# Altium integrated library Renesas Logic.IntLib: 1013 symbols (part 5 of 27)
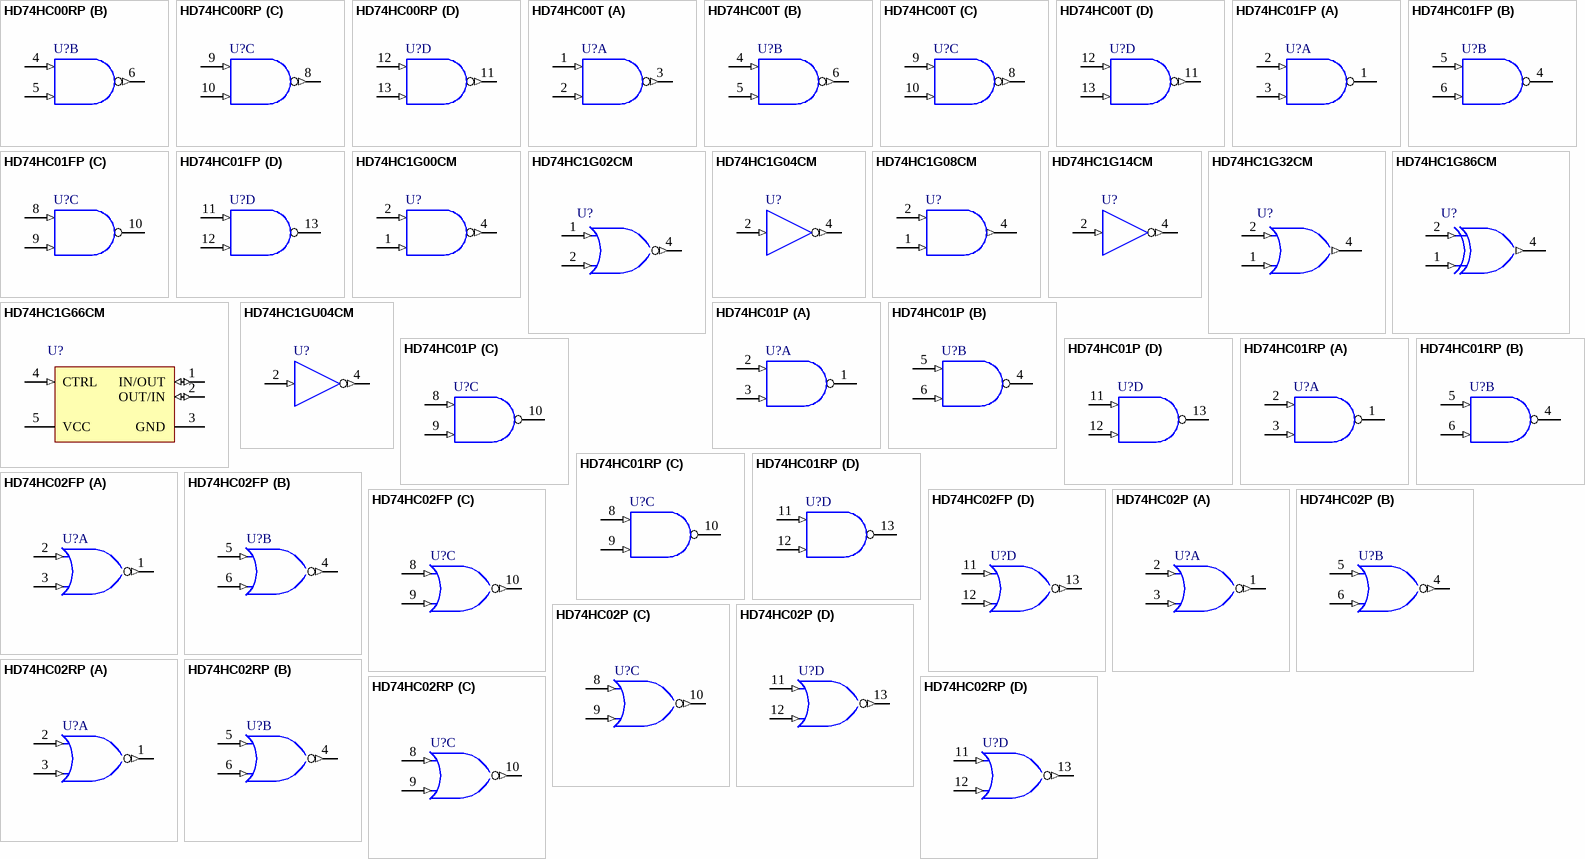
[diagram p57: symbols HD74HC00RP to HD74HC02RP]

## HD74HC1G86CM
designator U?
2-Input Exclusive-OR Gate; Published: 10-Feb-2010; DatasheetVersion: Rev.5.00, Jan-2004; PackageVersion: Jan-2005; PackageReference: PTSP0005ZC-A; Publisher: Altium Limited; PackageDescription: 5-Pin Plastic SOT-353 Package 0.65 mm Pitch, 2.1 mm Lead Span; Code_JEITA: SC-88A; Code_IPC: SOT353-5; ComponentLink1Description: Manufacturer Link; ComponentLink1URL: http://sg.renesas.com/fmwk.jsp?cnt=unilogic_hc_root.jsp&fp=/products/standard_ic/general_purpose_logic/uni_logic/unilogic_hc/; ComponentLink2Description: Datasheet; ComponentLink2URL: http://documentation.renesas.com/eng/products/logic/rej03d0189_hd74hc1g86.pdf; ComponentLink3Description: Packaging Specification; ComponentLink3URL: http://sg.renesas.com/media/products/common_info/package/pdf/ic/code/ptsp0005zc_a.pdf
footprint PTSP0005ZC-A_N (SOT353, 5-Leads, Body 2x1.3mm, Pitch 0.65mm, Lead Span 2.1mm, IPC Medium Density)
footprint PTSP0005ZC-A_L (SOT353, 5-Leads, Body 2x1.3mm, Pitch 0.65mm, Lead Span 2.1mm, IPC High Density)
footprint PTSP0005ZC-A_M (SOT353, 5-Leads, Body 2x1.3mm, Pitch 0.65mm, Lead Span 2.1mm, IPC Low Density)
pins: 1 IN B (in), 2 IN A (in), 3 GND (power) hidden, 4 OUT Y (out), 5 VCC (power) hidden

## HD74HC1GU04CM
designator U?
Unbuffered Inverter; Published: 10-Feb-2010; DatasheetVersion: Rev.5.00, Jan-2004; PackageVersion: Jan-2005; PackageReference: PTSP0005ZC-A; Publisher: Altium Limited; PackageDescription: 5-Pin Plastic SOT-353 Package 0.65 mm Pitch, 2.1 mm Lead Span; Code_JEITA: SC-88A; Code_IPC: SOT353-5; ComponentLink1Description: Manufacturer Link; ComponentLink1URL: http://sg.renesas.com/fmwk.jsp?cnt=unilogic_hc_root.jsp&fp=/products/standard_ic/general_purpose_logic/uni_logic/unilogic_hc/; ComponentLink2Description: Datasheet; ComponentLink2URL: http://documentation.renesas.com/eng/products/logic/rej03d0190_hd74hc1gu04.pdf; ComponentLink3Description: Packaging Specification; ComponentLink3URL: http://sg.renesas.com/media/products/common_info/package/pdf/ic/code/ptsp0005zc_a.pdf
footprint PTSP0005ZC-A_N (SOT353, 5-Leads, Body 2x1.3mm, Pitch 0.65mm, Lead Span 2.1mm, IPC Medium Density)
footprint PTSP0005ZC-A_L (SOT353, 5-Leads, Body 2x1.3mm, Pitch 0.65mm, Lead Span 2.1mm, IPC High Density)
footprint PTSP0005ZC-A_M (SOT353, 5-Leads, Body 2x1.3mm, Pitch 0.65mm, Lead Span 2.1mm, IPC Low Density)
pins: 1 NC hidden, 2 IN A (in), 3 GND (power) hidden, 4 OUT ~{Y} (out), 5 VCC (power) hidden

## HD74HC01P
designator U?
Quad 2-Input NAND Gates with Open Drain Outputs; Published: 10-Feb-2010; DatasheetVersion: Rev.2.00, Oct-2005; PackageVersion: Sep-2005; PackageReference: PRDP0014AB-B; Publisher: Altium Limited; PackageDescription: 14-Pin Plastic DIP, 19.2 x 6.3 mm Body, 7.62 mm Row Spacing, Pitch 2.54 mm; Code_JEITA: P-DIP14-6.3x19.2-2.54; ComponentLink1Description: Manufacturer Link; ComponentLink1URL: http://sg.renesas.com/fmwk.jsp?cnt=hd74hc_root.jsp&fp=/products/standard_ic/general_purpose_logic/5v_standard_logic/hd74hc/; ComponentLink2Description: Datasheet; ComponentLink2URL: http://documentation.renesas.com/eng/products/logic/rej03d0532_hd74hc01ds.pdf; ComponentLink3Description: Packaging Specification; ComponentLink3URL: http://sg.renesas.com/media/products/common_info/package/pdf/ic/code/prdp0014ab_b.pdf
footprint PRDP0014AB-B (DIP, 14-Leads, Row Spacing 7.62mm, Pitch 2.54mm, Body 19.2x6.3mm)
pins on every part: 7 GND (power) hidden, 14 VCC (power) hidden
part A pins: 1 1Y (oc), 2 1A (in), 3 1B (in)
part B pins: 4 2Y (oc), 5 2A (in), 6 2B (in)
part C pins: 8 3A (in), 9 3B (in), 10 3Y (oc)
part D pins: 11 4A (in), 12 4B (in), 13 4Y (oc)

## HD74HC01RP
designator U?
Quad 2-Input NAND Gates with Open Drain Outputs; Published: 10-Feb-2010; DatasheetVersion: Rev.2.00, Oct-2005; PackageVersion: Sep-2005; PackageReference: PRSP0014DE-A; Publisher: Altium Limited; PackageDescription: 14-Pin Plastic Small Outline Integrated Circuit 8.65 x 3.95 mm Body, 1.27 mm Pitch; Code_JEITA: P-SOP14-3.95x8.65-1.27; ComponentLink1Description: Manufacturer Link; ComponentLink1URL: http://sg.renesas.com/fmwk.jsp?cnt=hd74hc_root.jsp&fp=/products/standard_ic/general_purpose_logic/5v_standard_logic/hd74hc/; ComponentLink2Description: Datasheet; ComponentLink2URL: http://documentation.renesas.com/eng/products/logic/rej03d0532_hd74hc01ds.pdf; ComponentLink3Description: Packaging Specification; ComponentLink3URL: http://sg.renesas.com/media/products/common_info/package/pdf/ic/code/prsp0014de_a.pdf
footprint PRSP0014DE-A_N (SOIC, 14-Leads, Body 8.65x3.95mm, Pitch 1.27mm, IPC Medium Density)
footprint PRSP0014DE-A_L (SOIC, 14-Leads, Body 8.65x3.95mm, Pitch 1.27mm, IPC High Density)
footprint PRSP0014DE-A_M (SOIC, 14-Leads, Body 8.65x3.95mm, Pitch 1.27mm, IPC Low Density)
pins on every part: 7 GND (power) hidden, 14 VCC (power) hidden
part A pins: 1 1Y (oc), 2 1A (in), 3 1B (in)
part B pins: 4 2Y (oc), 5 2A (in), 6 2B (in)
part C pins: 8 3A (in), 9 3B (in), 10 3Y (oc)
part D pins: 11 4A (in), 12 4B (in), 13 4Y (oc)

## HD74HC02FP
designator U?
Quad 2-Input NOR Gates; Published: 10-Feb-2010; DatasheetVersion: Rev.2.00, Oct-2005; PackageVersion: Sep-2005; PackageReference: PRSP0014DF-B; Publisher: Altium Limited; PackageDescription: 14-Pin Plastic Small Outline Package, 10.06 x 5.5 mm Body, 1.27 mm Pitch; Code_JEITA: P-SOP14-5.5x10.06-1.27; ComponentLink1Description: Manufacturer Link; ComponentLink1URL: http://sg.renesas.com/fmwk.jsp?cnt=hd74hc_root.jsp&fp=/products/standard_ic/general_purpose_logic/5v_standard_logic/hd74hc/; ComponentLink2Description: Datasheet; ComponentLink2URL: http://documentation.renesas.com/eng/products/logic/rej03d0533_hd74hc02ds.pdf; ComponentLink3Description: Packaging Specification; ComponentLink3URL: http://sg.renesas.com/media/products/common_info/package/pdf/ic/code/prsp0014df_b.pdf
footprint PRSP0014DF-B_N (SOP, 14-Leads, Body 10.06x5.5mm, Pitch 1.27mm, IPC Medium Density)
footprint PRSP0014DF-B_L (SOP, 14-Leads, Body 10.06x5.5mm, Pitch 1.27mm, IPC High Density)
footprint PRSP0014DF-B_M (SOP, 14-Leads, Body 10.06x5.5mm, Pitch 1.27mm, IPC Low Density)
pins on every part: 7 GND (power) hidden, 14 VCC (power) hidden
part A pins: 1 1Y (out), 2 1A (in), 3 1B (in)
part B pins: 4 2Y (out), 5 2A (in), 6 2B (in)
part C pins: 8 3A (in), 9 3B (in), 10 3Y (out)
part D pins: 11 4A (in), 12 4B (in), 13 4Y (out)

## HD74HC02P
designator U?
Quad 2-Input NOR Gates; Published: 10-Feb-2010; DatasheetVersion: Rev.2.00, Oct-2005; PackageVersion: Sep-2005; PackageReference: PRDP0014AB-B; Publisher: Altium Limited; PackageDescription: 14-Pin Plastic DIP, 19.2 x 6.3 mm Body, 7.62 mm Row Spacing, Pitch 2.54 mm; Code_JEITA: P-DIP14-6.3x19.2-2.54; ComponentLink1Description: Manufacturer Link; ComponentLink1URL: http://sg.renesas.com/fmwk.jsp?cnt=hd74hc_root.jsp&fp=/products/standard_ic/general_purpose_logic/5v_standard_logic/hd74hc/; ComponentLink2Description: Datasheet; ComponentLink2URL: http://documentation.renesas.com/eng/products/logic/rej03d0533_hd74hc02ds.pdf; ComponentLink3Description: Packaging Specification; ComponentLink3URL: http://sg.renesas.com/media/products/common_info/package/pdf/ic/code/prdp0014ab_b.pdf
footprint PRDP0014AB-B (DIP, 14-Leads, Row Spacing 7.62mm, Pitch 2.54mm, Body 19.2x6.3mm)
pins on every part: 7 GND (power) hidden, 14 VCC (power) hidden
part A pins: 1 1Y (out), 2 1A (in), 3 1B (in)
part B pins: 4 2Y (out), 5 2A (in), 6 2B (in)
part C pins: 8 3A (in), 9 3B (in), 10 3Y (out)
part D pins: 11 4A (in), 12 4B (in), 13 4Y (out)

## HD74HC02RP
designator U?
Quad 2-Input NOR Gates; Published: 10-Feb-2010; DatasheetVersion: Rev.2.00, Oct-2005; PackageVersion: Sep-2005; PackageReference: PRSP0014DE-A; Publisher: Altium Limited; PackageDescription: 14-Pin Plastic Small Outline Integrated Circuit 8.65 x 3.95 mm Body, 1.27 mm Pitch; Code_JEITA: P-SOP14-3.95x8.65-1.27; ComponentLink1Description: Manufacturer Link; ComponentLink1URL: http://sg.renesas.com/fmwk.jsp?cnt=hd74hc_root.jsp&fp=/products/standard_ic/general_purpose_logic/5v_standard_logic/hd74hc/; ComponentLink2Description: Datasheet; ComponentLink2URL: http://documentation.renesas.com/eng/products/logic/rej03d0533_hd74hc02ds.pdf; ComponentLink3Description: Packaging Specification; ComponentLink3URL: http://sg.renesas.com/media/products/common_info/package/pdf/ic/code/prsp0014de_a.pdf
footprint PRSP0014DE-A_N (SOIC, 14-Leads, Body 8.65x3.95mm, Pitch 1.27mm, IPC Medium Density)
footprint PRSP0014DE-A_L (SOIC, 14-Leads, Body 8.65x3.95mm, Pitch 1.27mm, IPC High Density)
footprint PRSP0014DE-A_M (SOIC, 14-Leads, Body 8.65x3.95mm, Pitch 1.27mm, IPC Low Density)
pins on every part: 7 GND (power) hidden, 14 VCC (power) hidden
part A pins: 1 1Y (out), 2 1A (in), 3 1B (in)
part B pins: 4 2Y (out), 5 2A (in), 6 2B (in)
part C pins: 8 3A (in), 9 3B (in), 10 3Y (out)
part D pins: 11 4A (in), 12 4B (in), 13 4Y (out)

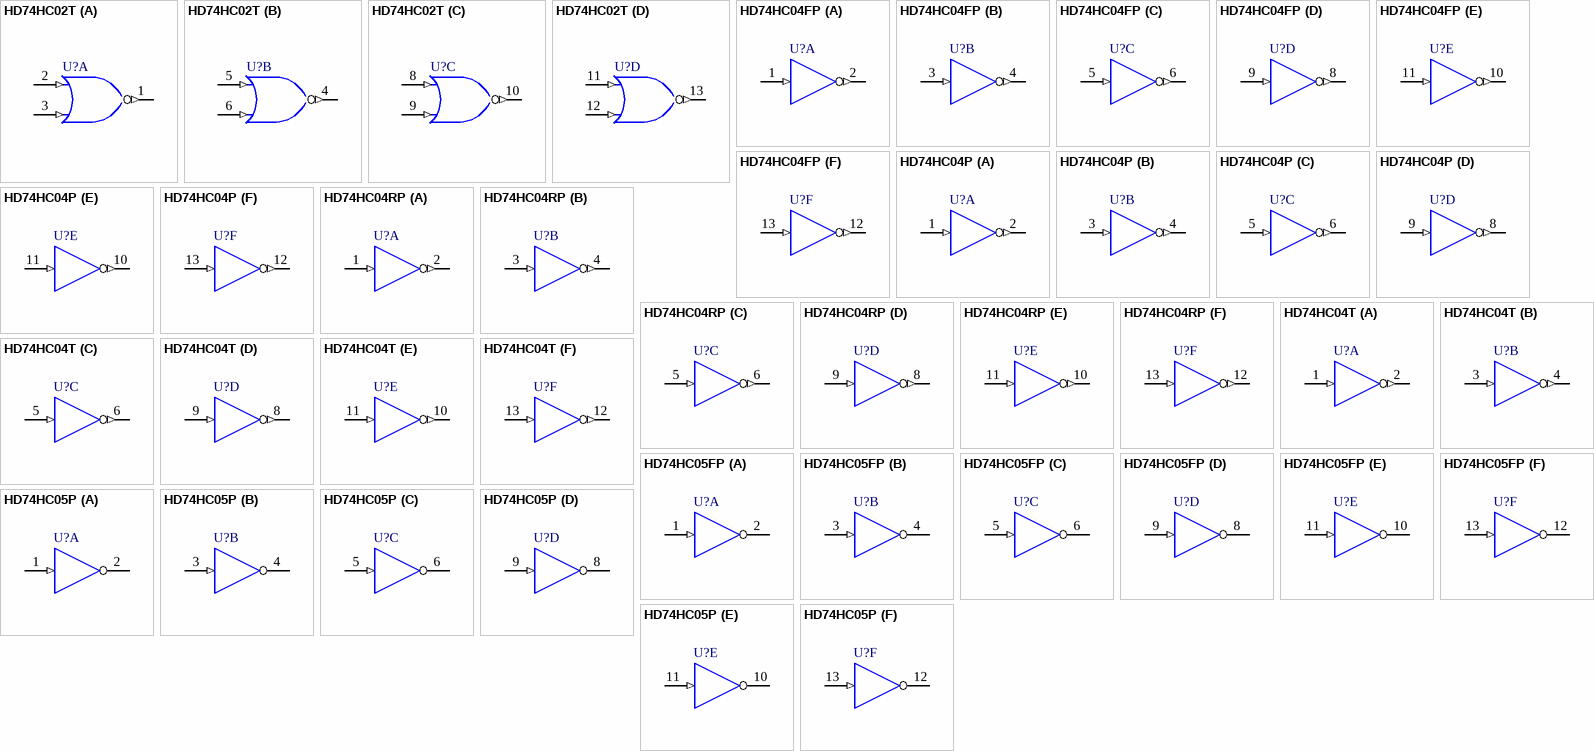
[diagram p9: symbols HD74HC02T to HD74HC05P]

## HD74HC02T
designator U?
Quad 2-Input NOR Gates; Published: 10-Feb-2010; DatasheetVersion: Rev.2.00, Oct-2005; PackageVersion: Sep-2005; PackageReference: PTSP0014JA-B; Publisher: Altium Limited; PackageDescription: 14-Pin Plastic Thin Small Outline Package 0.65 mm Pitch; Code_JEITA: P-TSSOP14-4.4x5-0.65; ComponentLink1Description: Manufacturer Link; ComponentLink1URL: http://sg.renesas.com/fmwk.jsp?cnt=hd74hc_root.jsp&fp=/products/standard_ic/general_purpose_logic/5v_standard_logic/hd74hc/; ComponentLink2Description: Datasheet; ComponentLink2URL: http://documentation.renesas.com/eng/products/logic/rej03d0533_hd74hc02ds.pdf; ComponentLink3Description: Packaging Specification; ComponentLink3URL: http://sg.renesas.com/media/products/common_info/package/pdf/ic/code/ptsp0014ja_b.pdf
footprint PTSP0014JA-B_N (TSOP, 14-Leads, Body 5x4.4mm, Pitch 0.65mm, IPC Medium Density)
footprint PTSP0014JA-B_L (TSOP, 14-Leads, Body 5x4.4mm, Pitch 0.65mm, IPC High Density)
footprint PTSP0014JA-B_M (TSOP, 14-Leads, Body 5x4.4mm, Pitch 0.65mm, IPC Low Density)
pins on every part: 7 GND (power) hidden, 14 VCC (power) hidden
part A pins: 1 1Y (out), 2 1A (in), 3 1B (in)
part B pins: 4 2Y (out), 5 2A (in), 6 2B (in)
part C pins: 8 3A (in), 9 3B (in), 10 3Y (out)
part D pins: 11 4A (in), 12 4B (in), 13 4Y (out)

## HD74HC04FP
designator U?
Hex Inverters; Published: 10-Feb-2010; DatasheetVersion: Rev.2.00, Oct-2005; PackageVersion: Sep-2005; PackageReference: PRSP0014DF-B; Publisher: Altium Limited; PackageDescription: 14-Pin Plastic Small Outline Package, 10.06 x 5.5 mm Body, 1.27 mm Pitch; Code_JEITA: P-SOP14-5.5x10.06-1.27; ComponentLink1Description: Manufacturer Link; ComponentLink1URL: http://sg.renesas.com/fmwk.jsp?cnt=hd74hc_root.jsp&fp=/products/standard_ic/general_purpose_logic/5v_standard_logic/hd74hc/; ComponentLink2Description: Datasheet; ComponentLink2URL: http://documentation.renesas.com/eng/products/logic/rej03d0534_hd74hc04ds.pdf; ComponentLink3Description: Packaging Specification; ComponentLink3URL: http://sg.renesas.com/media/products/common_info/package/pdf/ic/code/prsp0014df_b.pdf
footprint PRSP0014DF-B_N (SOP, 14-Leads, Body 10.06x5.5mm, Pitch 1.27mm, IPC Medium Density)
footprint PRSP0014DF-B_L (SOP, 14-Leads, Body 10.06x5.5mm, Pitch 1.27mm, IPC High Density)
footprint PRSP0014DF-B_M (SOP, 14-Leads, Body 10.06x5.5mm, Pitch 1.27mm, IPC Low Density)
pins on every part: 7 GND (power) hidden, 14 VCC (power) hidden
part A pins: 1 1A (in), 2 1~{Y} (out)
part B pins: 3 2A (in), 4 2~{Y} (out)
part C pins: 5 3A (in), 6 3~{Y} (out)
part D pins: 8 4~{Y} (out), 9 4A (in)
part E pins: 10 5~{Y} (out), 11 5A (in)
part F pins: 12 6~{Y} (out), 13 6A (in)

## HD74HC04P
designator U?
Hex Inverters; Published: 10-Feb-2010; DatasheetVersion: Rev.2.00, Oct-2005; PackageVersion: Sep-2005; PackageReference: PRDP0014AB-B; Publisher: Altium Limited; PackageDescription: 14-Pin Plastic DIP, 19.2 x 6.3 mm Body, 7.62 mm Row Spacing, Pitch 2.54 mm; Code_JEITA: P-DIP14-6.3x19.2-2.54; ComponentLink1Description: Manufacturer Link; ComponentLink1URL: http://sg.renesas.com/fmwk.jsp?cnt=hd74hc_root.jsp&fp=/products/standard_ic/general_purpose_logic/5v_standard_logic/hd74hc/; ComponentLink2Description: Datasheet; ComponentLink2URL: http://documentation.renesas.com/eng/products/logic/rej03d0534_hd74hc04ds.pdf; ComponentLink3Description: Packaging Specification; ComponentLink3URL: http://sg.renesas.com/media/products/common_info/package/pdf/ic/code/prdp0014ab_b.pdf
footprint PRDP0014AB-B (DIP, 14-Leads, Row Spacing 7.62mm, Pitch 2.54mm, Body 19.2x6.3mm)
pins on every part: 7 GND (power) hidden, 14 VCC (power) hidden
part A pins: 1 1A (in), 2 1~{Y} (out)
part B pins: 3 2A (in), 4 2~{Y} (out)
part C pins: 5 3A (in), 6 3~{Y} (out)
part D pins: 8 4~{Y} (out), 9 4A (in)
part E pins: 10 5~{Y} (out), 11 5A (in)
part F pins: 12 6~{Y} (out), 13 6A (in)

## HD74HC04RP
designator U?
Hex Inverters; Published: 10-Feb-2010; DatasheetVersion: Rev.2.00, Oct-2005; PackageVersion: Sep-2005; PackageReference: PRSP0014DE-A; Publisher: Altium Limited; PackageDescription: 14-Pin Plastic Small Outline Integrated Circuit 8.65 x 3.95 mm Body, 1.27 mm Pitch; Code_JEITA: P-SOP14-3.95x8.65-1.27; ComponentLink1Description: Manufacturer Link; ComponentLink1URL: http://sg.renesas.com/fmwk.jsp?cnt=hd74hc_root.jsp&fp=/products/standard_ic/general_purpose_logic/5v_standard_logic/hd74hc/; ComponentLink2Description: Datasheet; ComponentLink2URL: http://documentation.renesas.com/eng/products/logic/rej03d0534_hd74hc04ds.pdf; ComponentLink3Description: Packaging Specification; ComponentLink3URL: http://sg.renesas.com/media/products/common_info/package/pdf/ic/code/prsp0014de_a.pdf
footprint PRSP0014DE-A_N (SOIC, 14-Leads, Body 8.65x3.95mm, Pitch 1.27mm, IPC Medium Density)
footprint PRSP0014DE-A_L (SOIC, 14-Leads, Body 8.65x3.95mm, Pitch 1.27mm, IPC High Density)
footprint PRSP0014DE-A_M (SOIC, 14-Leads, Body 8.65x3.95mm, Pitch 1.27mm, IPC Low Density)
pins on every part: 7 GND (power) hidden, 14 VCC (power) hidden
part A pins: 1 1A (in), 2 1~{Y} (out)
part B pins: 3 2A (in), 4 2~{Y} (out)
part C pins: 5 3A (in), 6 3~{Y} (out)
part D pins: 8 4~{Y} (out), 9 4A (in)
part E pins: 10 5~{Y} (out), 11 5A (in)
part F pins: 12 6~{Y} (out), 13 6A (in)

## HD74HC04T
designator U?
Hex Inverters; Published: 10-Feb-2010; DatasheetVersion: Rev.2.00, Oct-2005; PackageVersion: Sep-2005; PackageReference: PTSP0014JA-B; Publisher: Altium Limited; PackageDescription: 14-Pin Plastic Thin Small Outline Package 0.65 mm Pitch; Code_JEITA: P-TSSOP14-4.4x5-0.65; ComponentLink1Description: Manufacturer Link; ComponentLink1URL: http://sg.renesas.com/fmwk.jsp?cnt=hd74hc_root.jsp&fp=/products/standard_ic/general_purpose_logic/5v_standard_logic/hd74hc/; ComponentLink2Description: Datasheet; ComponentLink2URL: http://documentation.renesas.com/eng/products/logic/rej03d0534_hd74hc04ds.pdf; ComponentLink3Description: Packaging Specification; ComponentLink3URL: http://sg.renesas.com/media/products/common_info/package/pdf/ic/code/ptsp0014ja_b.pdf
footprint PTSP0014JA-B_N (TSOP, 14-Leads, Body 5x4.4mm, Pitch 0.65mm, IPC Medium Density)
footprint PTSP0014JA-B_L (TSOP, 14-Leads, Body 5x4.4mm, Pitch 0.65mm, IPC High Density)
footprint PTSP0014JA-B_M (TSOP, 14-Leads, Body 5x4.4mm, Pitch 0.65mm, IPC Low Density)
pins on every part: 7 GND (power) hidden, 14 VCC (power) hidden
part A pins: 1 1A (in), 2 1~{Y} (out)
part B pins: 3 2A (in), 4 2~{Y} (out)
part C pins: 5 3A (in), 6 3~{Y} (out)
part D pins: 8 4~{Y} (out), 9 4A (in)
part E pins: 10 5~{Y} (out), 11 5A (in)
part F pins: 12 6~{Y} (out), 13 6A (in)

## HD74HC05FP
designator U?
Hex Inverters with Open Drain Outputs; Published: 10-Feb-2010; DatasheetVersion: Rev.2.00, Oct-2005; PackageVersion: Sep-2005; PackageReference: PRSP0014DF-B; Publisher: Altium Limited; PackageDescription: 14-Pin Plastic Small Outline Package, 10.06 x 5.5 mm Body, 1.27 mm Pitch; Code_JEITA: P-SOP14-5.5x10.06-1.27; ComponentLink1Description: Manufacturer Link; ComponentLink1URL: http://sg.renesas.com/fmwk.jsp?cnt=hd74hc_root.jsp&fp=/products/standard_ic/general_purpose_logic/5v_standard_logic/hd74hc/; ComponentLink2Description: Datasheet; ComponentLink2URL: http://documentation.renesas.com/eng/products/logic/rej03d0535_hd74hc05ds.pdf; ComponentLink3Description: Packaging Specification; ComponentLink3URL: http://sg.renesas.com/media/products/common_info/package/pdf/ic/code/prsp0014df_b.pdf
footprint PRSP0014DF-B_N (SOP, 14-Leads, Body 10.06x5.5mm, Pitch 1.27mm, IPC Medium Density)
footprint PRSP0014DF-B_L (SOP, 14-Leads, Body 10.06x5.5mm, Pitch 1.27mm, IPC High Density)
footprint PRSP0014DF-B_M (SOP, 14-Leads, Body 10.06x5.5mm, Pitch 1.27mm, IPC Low Density)
pins on every part: 7 GND (power) hidden, 14 VCC (power) hidden
part A pins: 1 1A (in), 2 1~{Y} (oc)
part B pins: 3 2A (in), 4 2~{Y} (oc)
part C pins: 5 3A (in), 6 3~{Y} (oc)
part D pins: 8 4~{Y} (oc), 9 4A (in)
part E pins: 10 5~{Y} (oc), 11 5A (in)
part F pins: 12 6~{Y} (oc), 13 6A (in)

## HD74HC05P
designator U?
Hex Inverters with Open Drain Outputs; Published: 10-Feb-2010; DatasheetVersion: Rev.2.00, Oct-2005; PackageVersion: Sep-2005; PackageReference: PRDP0014AB-B; Publisher: Altium Limited; PackageDescription: 14-Pin Plastic DIP, 19.2 x 6.3 mm Body, 7.62 mm Row Spacing, Pitch 2.54 mm; Code_JEITA: P-DIP14-6.3x19.2-2.54; ComponentLink1Description: Manufacturer Link; ComponentLink1URL: http://sg.renesas.com/fmwk.jsp?cnt=hd74hc_root.jsp&fp=/products/standard_ic/general_purpose_logic/5v_standard_logic/hd74hc/; ComponentLink2Description: Datasheet; ComponentLink2URL: http://documentation.renesas.com/eng/products/logic/rej03d0535_hd74hc05ds.pdf; ComponentLink3Description: Packaging Specification; ComponentLink3URL: http://sg.renesas.com/media/products/common_info/package/pdf/ic/code/prdp0014ab_b.pdf
footprint PRDP0014AB-B (DIP, 14-Leads, Row Spacing 7.62mm, Pitch 2.54mm, Body 19.2x6.3mm)
pins on every part: 7 GND (power) hidden, 14 VCC (power) hidden
part A pins: 1 1A (in), 2 1~{Y} (oc)
part B pins: 3 2A (in), 4 2~{Y} (oc)
part C pins: 5 3A (in), 6 3~{Y} (oc)
part D pins: 8 4~{Y} (oc), 9 4A (in)
part E pins: 10 5~{Y} (oc), 11 5A (in)
part F pins: 12 6~{Y} (oc), 13 6A (in)

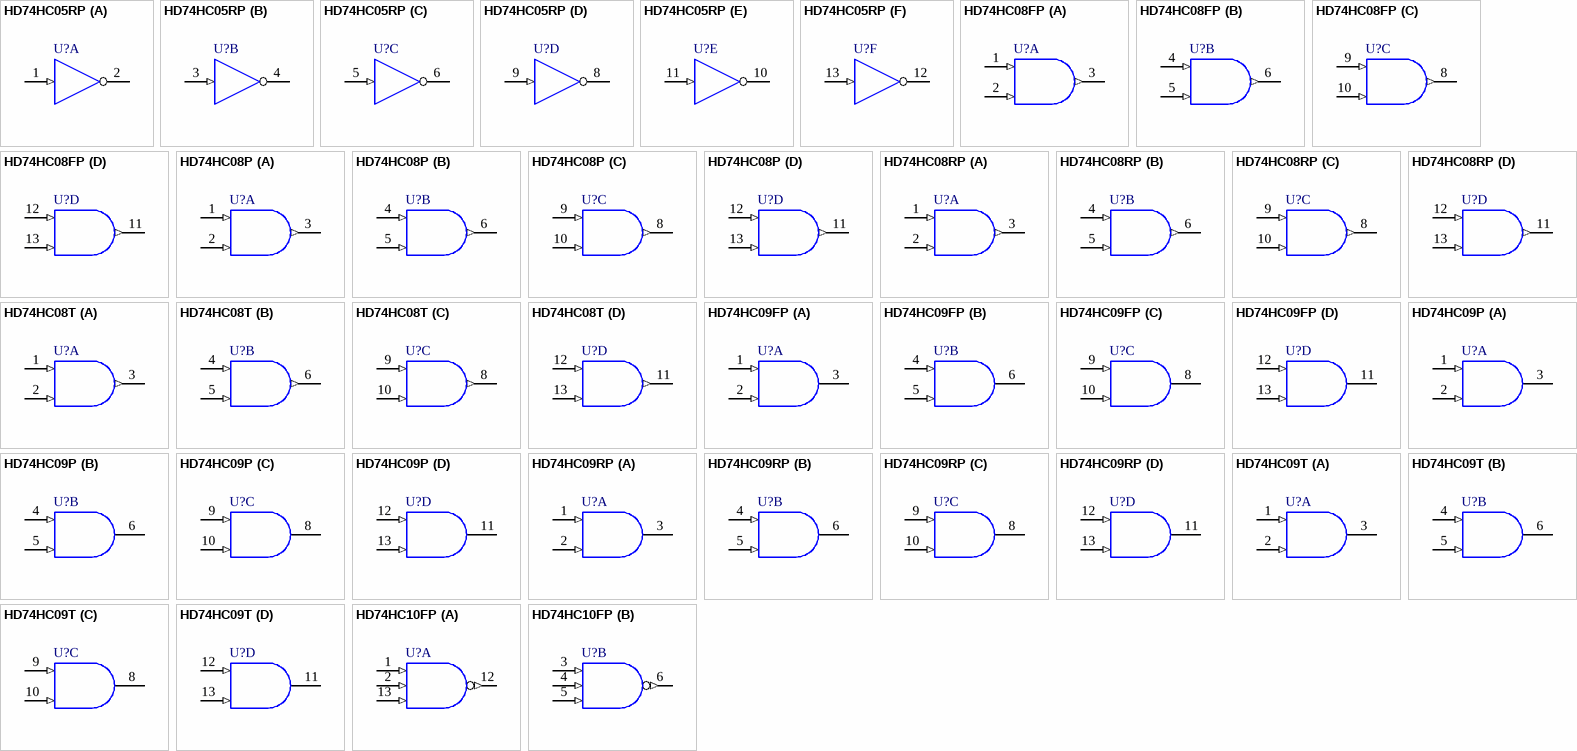
[diagram p10: symbols HD74HC05RP to HD74HC10FP]

## HD74HC05RP
designator U?
Hex Inverters with Open Drain Outputs; Published: 10-Feb-2010; DatasheetVersion: Rev.2.00, Oct-2005; PackageVersion: Sep-2005; PackageReference: PRSP0014DE-A; Publisher: Altium Limited; PackageDescription: 14-Pin Plastic Small Outline Integrated Circuit 8.65 x 3.95 mm Body, 1.27 mm Pitch; Code_JEITA: P-SOP14-3.95x8.65-1.27; ComponentLink1Description: Manufacturer Link; ComponentLink1URL: http://sg.renesas.com/fmwk.jsp?cnt=hd74hc_root.jsp&fp=/products/standard_ic/general_purpose_logic/5v_standard_logic/hd74hc/; ComponentLink2Description: Datasheet; ComponentLink2URL: http://documentation.renesas.com/eng/products/logic/rej03d0535_hd74hc05ds.pdf; ComponentLink3Description: Packaging Specification; ComponentLink3URL: http://sg.renesas.com/media/products/common_info/package/pdf/ic/code/prsp0014de_a.pdf
footprint PRSP0014DE-A_N (SOIC, 14-Leads, Body 8.65x3.95mm, Pitch 1.27mm, IPC Medium Density)
footprint PRSP0014DE-A_L (SOIC, 14-Leads, Body 8.65x3.95mm, Pitch 1.27mm, IPC High Density)
footprint PRSP0014DE-A_M (SOIC, 14-Leads, Body 8.65x3.95mm, Pitch 1.27mm, IPC Low Density)
pins on every part: 7 GND (power) hidden, 14 VCC (power) hidden
part A pins: 1 1A (in), 2 1~{Y} (oc)
part B pins: 3 2A (in), 4 2~{Y} (oc)
part C pins: 5 3A (in), 6 3~{Y} (oc)
part D pins: 8 4~{Y} (oc), 9 4A (in)
part E pins: 10 5~{Y} (oc), 11 5A (in)
part F pins: 12 6~{Y} (oc), 13 6A (in)

## HD74HC08FP
designator U?
Quad 2-Input AND Gates; Published: 10-Feb-2010; DatasheetVersion: Rev.2.00, Oct-2005; PackageVersion: Sep-2005; PackageReference: PRSP0014DF-B; Publisher: Altium Limited; PackageDescription: 14-Pin Plastic Small Outline Package, 10.06 x 5.5 mm Body, 1.27 mm Pitch; Code_JEITA: P-SOP14-5.5x10.06-1.27; ComponentLink1Description: Manufacturer Link; ComponentLink1URL: http://sg.renesas.com/fmwk.jsp?cnt=hd74hc_root.jsp&fp=/products/standard_ic/general_purpose_logic/5v_standard_logic/hd74hc/; ComponentLink2Description: Datasheet; ComponentLink2URL: http://documentation.renesas.com/eng/products/logic/rej03d0536_hd74hc08ds.pdf; ComponentLink3Description: Packaging Specification; ComponentLink3URL: http://sg.renesas.com/media/products/common_info/package/pdf/ic/code/prsp0014df_b.pdf
footprint PRSP0014DF-B_N (SOP, 14-Leads, Body 10.06x5.5mm, Pitch 1.27mm, IPC Medium Density)
footprint PRSP0014DF-B_L (SOP, 14-Leads, Body 10.06x5.5mm, Pitch 1.27mm, IPC High Density)
footprint PRSP0014DF-B_M (SOP, 14-Leads, Body 10.06x5.5mm, Pitch 1.27mm, IPC Low Density)
pins on every part: 7 GND (power) hidden, 14 VCC (power) hidden
part A pins: 1 1A (in), 2 1B (in), 3 1Y (out)
part B pins: 4 2A (in), 5 2B (in), 6 2Y (out)
part C pins: 8 3Y (out), 9 3A (in), 10 3B (in)
part D pins: 11 4Y (out), 12 4A (in), 13 4B (in)

## HD74HC08P
designator U?
Quad 2-Input AND Gates; Published: 10-Feb-2010; DatasheetVersion: Rev.2.00, Oct-2005; PackageVersion: Sep-2005; PackageReference: PRDP0014AB-B; Publisher: Altium Limited; PackageDescription: 14-Pin Plastic DIP, 19.2 x 6.3 mm Body, 7.62 mm Row Spacing, Pitch 2.54 mm; Code_JEITA: P-DIP14-6.3x19.2-2.54; ComponentLink1Description: Manufacturer Link; ComponentLink1URL: http://sg.renesas.com/fmwk.jsp?cnt=hd74hc_root.jsp&fp=/products/standard_ic/general_purpose_logic/5v_standard_logic/hd74hc/; ComponentLink2Description: Datasheet; ComponentLink2URL: http://documentation.renesas.com/eng/products/logic/rej03d0536_hd74hc08ds.pdf; ComponentLink3Description: Packaging Specification; ComponentLink3URL: http://sg.renesas.com/media/products/common_info/package/pdf/ic/code/prdp0014ab_b.pdf
footprint PRDP0014AB-B (DIP, 14-Leads, Row Spacing 7.62mm, Pitch 2.54mm, Body 19.2x6.3mm)
pins on every part: 7 GND (power) hidden, 14 VCC (power) hidden
part A pins: 1 1A (in), 2 1B (in), 3 1Y (out)
part B pins: 4 2A (in), 5 2B (in), 6 2Y (out)
part C pins: 8 3Y (out), 9 3A (in), 10 3B (in)
part D pins: 11 4Y (out), 12 4A (in), 13 4B (in)

## HD74HC08RP
designator U?
Quad 2-Input AND Gates; Published: 10-Feb-2010; DatasheetVersion: Rev.2.00, Oct-2005; PackageVersion: Sep-2005; PackageReference: PRSP0014DE-A; Publisher: Altium Limited; PackageDescription: 14-Pin Plastic Small Outline Integrated Circuit 8.65 x 3.95 mm Body, 1.27 mm Pitch; Code_JEITA: P-SOP14-3.95x8.65-1.27; ComponentLink1Description: Manufacturer Link; ComponentLink1URL: http://sg.renesas.com/fmwk.jsp?cnt=hd74hc_root.jsp&fp=/products/standard_ic/general_purpose_logic/5v_standard_logic/hd74hc/; ComponentLink2Description: Datasheet; ComponentLink2URL: http://documentation.renesas.com/eng/products/logic/rej03d0536_hd74hc08ds.pdf; ComponentLink3Description: Packaging Specification; ComponentLink3URL: http://sg.renesas.com/media/products/common_info/package/pdf/ic/code/prsp0014de_a.pdf
footprint PRSP0014DE-A_N (SOIC, 14-Leads, Body 8.65x3.95mm, Pitch 1.27mm, IPC Medium Density)
footprint PRSP0014DE-A_L (SOIC, 14-Leads, Body 8.65x3.95mm, Pitch 1.27mm, IPC High Density)
footprint PRSP0014DE-A_M (SOIC, 14-Leads, Body 8.65x3.95mm, Pitch 1.27mm, IPC Low Density)
pins on every part: 7 GND (power) hidden, 14 VCC (power) hidden
part A pins: 1 1A (in), 2 1B (in), 3 1Y (out)
part B pins: 4 2A (in), 5 2B (in), 6 2Y (out)
part C pins: 8 3Y (out), 9 3A (in), 10 3B (in)
part D pins: 11 4Y (out), 12 4A (in), 13 4B (in)

## HD74HC08T
designator U?
Quad 2-Input AND Gates; Published: 10-Feb-2010; DatasheetVersion: Rev.2.00, Oct-2005; PackageVersion: Sep-2005; PackageReference: PTSP0014JA-B; Publisher: Altium Limited; PackageDescription: 14-Pin Plastic Thin Small Outline Package 0.65 mm Pitch; Code_JEITA: P-TSSOP14-4.4x5-0.65; ComponentLink1Description: Manufacturer Link; ComponentLink1URL: http://sg.renesas.com/fmwk.jsp?cnt=hd74hc_root.jsp&fp=/products/standard_ic/general_purpose_logic/5v_standard_logic/hd74hc/; ComponentLink2Description: Datasheet; ComponentLink2URL: http://documentation.renesas.com/eng/products/logic/rej03d0536_hd74hc08ds.pdf; ComponentLink3Description: Packaging Specification; ComponentLink3URL: http://sg.renesas.com/media/products/common_info/package/pdf/ic/code/ptsp0014ja_b.pdf
footprint PTSP0014JA-B_N (TSOP, 14-Leads, Body 5x4.4mm, Pitch 0.65mm, IPC Medium Density)
footprint PTSP0014JA-B_L (TSOP, 14-Leads, Body 5x4.4mm, Pitch 0.65mm, IPC High Density)
footprint PTSP0014JA-B_M (TSOP, 14-Leads, Body 5x4.4mm, Pitch 0.65mm, IPC Low Density)
pins on every part: 7 GND (power) hidden, 14 VCC (power) hidden
part A pins: 1 1A (in), 2 1B (in), 3 1Y (out)
part B pins: 4 2A (in), 5 2B (in), 6 2Y (out)
part C pins: 8 3Y (out), 9 3A (in), 10 3B (in)
part D pins: 11 4Y (out), 12 4A (in), 13 4B (in)

## HD74HC09FP
designator U?
Quad 2-Input AND Gates with Open Drain Outputs; Published: 10-Feb-2010; DatasheetVersion: Rev.2.00, Oct-2005; PackageVersion: Sep-2005; PackageReference: PRSP0014DF-B; Publisher: Altium Limited; PackageDescription: 14-Pin Plastic Small Outline Package, 10.06 x 5.5 mm Body, 1.27 mm Pitch; Code_JEITA: P-SOP14-5.5x10.06-1.27; ComponentLink1Description: Manufacturer Link; ComponentLink1URL: http://sg.renesas.com/fmwk.jsp?cnt=hd74hc_root.jsp&fp=/products/standard_ic/general_purpose_logic/5v_standard_logic/hd74hc/; ComponentLink2Description: Datasheet; ComponentLink2URL: http://documentation.renesas.com/eng/products/transistor/rej03d0537_hd74hc09ds.pdf; ComponentLink3Description: Packaging Specification; ComponentLink3URL: http://sg.renesas.com/media/products/common_info/package/pdf/ic/code/prsp0014df_b.pdf
footprint PRSP0014DF-B_N (SOP, 14-Leads, Body 10.06x5.5mm, Pitch 1.27mm, IPC Medium Density)
footprint PRSP0014DF-B_L (SOP, 14-Leads, Body 10.06x5.5mm, Pitch 1.27mm, IPC High Density)
footprint PRSP0014DF-B_M (SOP, 14-Leads, Body 10.06x5.5mm, Pitch 1.27mm, IPC Low Density)
pins on every part: 7 GND (power) hidden, 14 VCC (power) hidden
part A pins: 1 1A (in), 2 1B (in), 3 1Y (oc)
part B pins: 4 2A (in), 5 2B (in), 6 2Y (oc)
part C pins: 8 3Y (oc), 9 3A (in), 10 3B (in)
part D pins: 11 4Y (oc), 12 4A (in), 13 4B (in)

## HD74HC09P
designator U?
Quad 2-Input AND Gates with Open Drain Outputs; Published: 10-Feb-2010; DatasheetVersion: Rev.2.00, Oct-2005; PackageVersion: Sep-2005; PackageReference: PRDP0014AB-B; Publisher: Altium Limited; PackageDescription: 14-Pin Plastic DIP, 19.2 x 6.3 mm Body, 7.62 mm Row Spacing, Pitch 2.54 mm; Code_JEITA: P-DIP14-6.3x19.2-2.54; ComponentLink1Description: Manufacturer Link; ComponentLink1URL: http://sg.renesas.com/fmwk.jsp?cnt=hd74hc_root.jsp&fp=/products/standard_ic/general_purpose_logic/5v_standard_logic/hd74hc/; ComponentLink2Description: Datasheet; ComponentLink2URL: http://documentation.renesas.com/eng/products/transistor/rej03d0537_hd74hc09ds.pdf; ComponentLink3Description: Packaging Specification; ComponentLink3URL: http://sg.renesas.com/media/products/common_info/package/pdf/ic/code/prdp0014ab_b.pdf
footprint PRDP0014AB-B (DIP, 14-Leads, Row Spacing 7.62mm, Pitch 2.54mm, Body 19.2x6.3mm)
pins on every part: 7 GND (power) hidden, 14 VCC (power) hidden
part A pins: 1 1A (in), 2 1B (in), 3 1Y (oc)
part B pins: 4 2A (in), 5 2B (in), 6 2Y (oc)
part C pins: 8 3Y (oc), 9 3A (in), 10 3B (in)
part D pins: 11 4Y (oc), 12 4A (in), 13 4B (in)

## HD74HC09RP
designator U?
Quad 2-Input AND Gates with Open Drain Outputs; Published: 10-Feb-2010; DatasheetVersion: Rev.2.00, Oct-2005; PackageVersion: Sep-2005; PackageReference: PRSP0014DE-A; Publisher: Altium Limited; PackageDescription: 14-Pin Plastic Small Outline Integrated Circuit 8.65 x 3.95 mm Body, 1.27 mm Pitch; Code_JEITA: P-SOP14-3.95x8.65-1.27; ComponentLink1Description: Manufacturer Link; ComponentLink1URL: http://sg.renesas.com/fmwk.jsp?cnt=hd74hc_root.jsp&fp=/products/standard_ic/general_purpose_logic/5v_standard_logic/hd74hc/; ComponentLink2Description: Datasheet; ComponentLink2URL: http://documentation.renesas.com/eng/products/transistor/rej03d0537_hd74hc09ds.pdf; ComponentLink3Description: Packaging Specification; ComponentLink3URL: http://sg.renesas.com/media/products/common_info/package/pdf/ic/code/prsp0014de_a.pdf
footprint PRSP0014DE-A_N (SOIC, 14-Leads, Body 8.65x3.95mm, Pitch 1.27mm, IPC Medium Density)
footprint PRSP0014DE-A_L (SOIC, 14-Leads, Body 8.65x3.95mm, Pitch 1.27mm, IPC High Density)
footprint PRSP0014DE-A_M (SOIC, 14-Leads, Body 8.65x3.95mm, Pitch 1.27mm, IPC Low Density)
pins on every part: 7 GND (power) hidden, 14 VCC (power) hidden
part A pins: 1 1A (in), 2 1B (in), 3 1Y (oc)
part B pins: 4 2A (in), 5 2B (in), 6 2Y (oc)
part C pins: 8 3Y (oc), 9 3A (in), 10 3B (in)
part D pins: 11 4Y (oc), 12 4A (in), 13 4B (in)

## HD74HC09T
designator U?
Quad 2-Input AND Gates with Open Drain Outputs; Published: 10-Feb-2010; DatasheetVersion: Rev.2.00, Oct-2005; PackageVersion: Sep-2005; PackageReference: PTSP0014JA-B; Publisher: Altium Limited; PackageDescription: 14-Pin Plastic Thin Small Outline Package 0.65 mm Pitch; Code_JEITA: P-TSSOP14-4.4x5-0.65; ComponentLink1Description: Manufacturer Link; ComponentLink1URL: http://sg.renesas.com/fmwk.jsp?cnt=hd74hc_root.jsp&fp=/products/standard_ic/general_purpose_logic/5v_standard_logic/hd74hc/; ComponentLink2Description: Datasheet; ComponentLink2URL: http://documentation.renesas.com/eng/products/transistor/rej03d0537_hd74hc09ds.pdf; ComponentLink3Description: Packaging Specification; ComponentLink3URL: http://sg.renesas.com/media/products/common_info/package/pdf/ic/code/ptsp0014ja_b.pdf
footprint PTSP0014JA-B_N (TSOP, 14-Leads, Body 5x4.4mm, Pitch 0.65mm, IPC Medium Density)
footprint PTSP0014JA-B_L (TSOP, 14-Leads, Body 5x4.4mm, Pitch 0.65mm, IPC High Density)
footprint PTSP0014JA-B_M (TSOP, 14-Leads, Body 5x4.4mm, Pitch 0.65mm, IPC Low Density)
pins on every part: 7 GND (power) hidden, 14 VCC (power) hidden
part A pins: 1 1A (in), 2 1B (in), 3 1Y (oc)
part B pins: 4 2A (in), 5 2B (in), 6 2Y (oc)
part C pins: 8 3Y (oc), 9 3A (in), 10 3B (in)
part D pins: 11 4Y (oc), 12 4A (in), 13 4B (in)

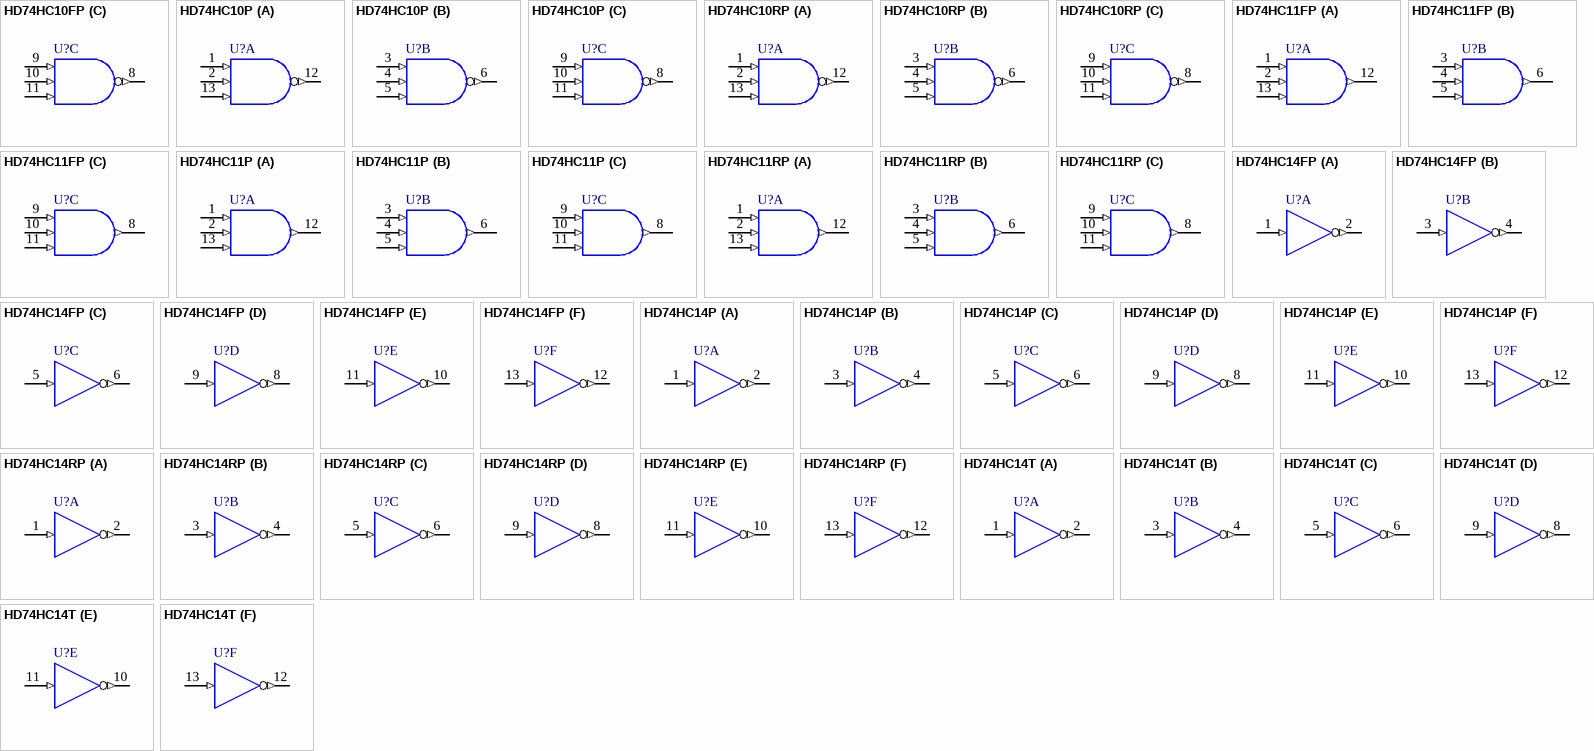
[diagram p11: symbols HD74HC10FP to HD74HC14T]

## HD74HC10FP
designator U?
Triple 3-Input NAND Gates; Published: 10-Feb-2010; DatasheetVersion: Rev.2.00, Oct-2005; PackageVersion: Sep-2005; PackageReference: PRSP0014DF-B; Publisher: Altium Limited; PackageDescription: 14-Pin Plastic Small Outline Package, 10.06 x 5.5 mm Body, 1.27 mm Pitch; Code_JEITA: P-SOP14-5.5x10.06-1.27; ComponentLink1Description: Manufacturer Link; ComponentLink1URL: http://sg.renesas.com/fmwk.jsp?cnt=hd74hc_root.jsp&fp=/products/standard_ic/general_purpose_logic/5v_standard_logic/hd74hc/; ComponentLink2Description: Datasheet; ComponentLink2URL: http://documentation.renesas.com/eng/products/logic/rej03d0538_hd74hc10ds.pdf; ComponentLink3Description: Packaging Specification; ComponentLink3URL: http://sg.renesas.com/media/products/common_info/package/pdf/ic/code/prsp0014df_b.pdf
footprint PRSP0014DF-B_N (SOP, 14-Leads, Body 10.06x5.5mm, Pitch 1.27mm, IPC Medium Density)
footprint PRSP0014DF-B_L (SOP, 14-Leads, Body 10.06x5.5mm, Pitch 1.27mm, IPC High Density)
footprint PRSP0014DF-B_M (SOP, 14-Leads, Body 10.06x5.5mm, Pitch 1.27mm, IPC Low Density)
pins on every part: 7 GND (power) hidden, 14 VCC (power) hidden
part A pins: 1 1A (in), 2 1B (in), 12 1Y (out), 13 1C (in)
part B pins: 3 2A (in), 4 2B (in), 5 2C (in), 6 2Y (out)
part C pins: 8 3Y (out), 9 3A (in), 10 3B (in), 11 3C (in)

## HD74HC10P
designator U?
Triple 3-Input NAND Gates; Published: 10-Feb-2010; DatasheetVersion: Rev.2.00, Oct-2005; PackageVersion: Sep-2005; PackageReference: PRDP0014AB-B; Publisher: Altium Limited; PackageDescription: 14-Pin Plastic DIP, 19.2 x 6.3 mm Body, 7.62 mm Row Spacing, Pitch 2.54 mm; Code_JEITA: P-DIP14-6.3x19.2-2.54; ComponentLink1Description: Manufacturer Link; ComponentLink1URL: http://sg.renesas.com/fmwk.jsp?cnt=hd74hc_root.jsp&fp=/products/standard_ic/general_purpose_logic/5v_standard_logic/hd74hc/; ComponentLink2Description: Datasheet; ComponentLink2URL: http://documentation.renesas.com/eng/products/logic/rej03d0538_hd74hc10ds.pdf; ComponentLink3Description: Packaging Specification; ComponentLink3URL: http://sg.renesas.com/media/products/common_info/package/pdf/ic/code/prdp0014ab_b.pdf
footprint PRDP0014AB-B (DIP, 14-Leads, Row Spacing 7.62mm, Pitch 2.54mm, Body 19.2x6.3mm)
pins on every part: 7 GND (power) hidden, 14 VCC (power) hidden
part A pins: 1 1A (in), 2 1B (in), 12 1Y (out), 13 1C (in)
part B pins: 3 2A (in), 4 2B (in), 5 2C (in), 6 2Y (out)
part C pins: 8 3Y (out), 9 3A (in), 10 3B (in), 11 3C (in)

## HD74HC10RP
designator U?
Triple 3-Input NAND Gates; Published: 10-Feb-2010; DatasheetVersion: Rev.2.00, Oct-2005; PackageVersion: Sep-2005; PackageReference: PRSP0014DE-A; Publisher: Altium Limited; PackageDescription: 14-Pin Plastic Small Outline Integrated Circuit 8.65 x 3.95 mm Body, 1.27 mm Pitch; Code_JEITA: P-SOP14-3.95x8.65-1.27; ComponentLink1Description: Manufacturer Link; ComponentLink1URL: http://sg.renesas.com/fmwk.jsp?cnt=hd74hc_root.jsp&fp=/products/standard_ic/general_purpose_logic/5v_standard_logic/hd74hc/; ComponentLink2Description: Datasheet; ComponentLink2URL: http://documentation.renesas.com/eng/products/logic/rej03d0538_hd74hc10ds.pdf; ComponentLink3Description: Packaging Specification; ComponentLink3URL: http://sg.renesas.com/media/products/common_info/package/pdf/ic/code/prsp0014de_a.pdf
footprint PRSP0014DE-A_N (SOIC, 14-Leads, Body 8.65x3.95mm, Pitch 1.27mm, IPC Medium Density)
footprint PRSP0014DE-A_L (SOIC, 14-Leads, Body 8.65x3.95mm, Pitch 1.27mm, IPC High Density)
footprint PRSP0014DE-A_M (SOIC, 14-Leads, Body 8.65x3.95mm, Pitch 1.27mm, IPC Low Density)
pins on every part: 7 GND (power) hidden, 14 VCC (power) hidden
part A pins: 1 1A (in), 2 1B (in), 12 1Y (out), 13 1C (in)
part B pins: 3 2A (in), 4 2B (in), 5 2C (in), 6 2Y (out)
part C pins: 8 3Y (out), 9 3A (in), 10 3B (in), 11 3C (in)

## HD74HC11FP
designator U?
Triple 3-Input AND Gates; Published: 10-Feb-2010; DatasheetVersion: Rev.2.00, Oct-2005; PackageVersion: Sep-2005; PackageReference: PRSP0014DF-B; Publisher: Altium Limited; PackageDescription: 14-Pin Plastic Small Outline Package, 10.06 x 5.5 mm Body, 1.27 mm Pitch; Code_JEITA: P-SOP14-5.5x10.06-1.27; ComponentLink1Description: Manufacturer Link; ComponentLink1URL: http://sg.renesas.com/fmwk.jsp?cnt=hd74hc_root.jsp&fp=/products/standard_ic/general_purpose_logic/5v_standard_logic/hd74hc/; ComponentLink2Description: Datasheet; ComponentLink2URL: http://documentation.renesas.com/eng/products/logic/rej03d0539_hd74hc11ds.pdf; ComponentLink3Description: Packaging Specification; ComponentLink3URL: http://sg.renesas.com/media/products/common_info/package/pdf/ic/code/prsp0014df_b.pdf
footprint PRSP0014DF-B_N (SOP, 14-Leads, Body 10.06x5.5mm, Pitch 1.27mm, IPC Medium Density)
footprint PRSP0014DF-B_L (SOP, 14-Leads, Body 10.06x5.5mm, Pitch 1.27mm, IPC High Density)
footprint PRSP0014DF-B_M (SOP, 14-Leads, Body 10.06x5.5mm, Pitch 1.27mm, IPC Low Density)
pins on every part: 7 GND (power) hidden, 14 VCC (power) hidden
part A pins: 1 1A (in), 2 1B (in), 12 1Y (out), 13 1C (in)
part B pins: 3 2A (in), 4 2B (in), 5 2C (in), 6 2Y (out)
part C pins: 8 3Y (out), 9 3A (in), 10 3B (in), 11 3C (in)

## HD74HC11P
designator U?
Triple 3-Input AND Gates; Published: 10-Feb-2010; DatasheetVersion: Rev.2.00, Oct-2005; PackageVersion: Sep-2005; PackageReference: PRDP0014AB-B; Publisher: Altium Limited; PackageDescription: 14-Pin Plastic DIP, 19.2 x 6.3 mm Body, 7.62 mm Row Spacing, Pitch 2.54 mm; Code_JEITA: P-DIP14-6.3x19.2-2.54; ComponentLink1Description: Manufacturer Link; ComponentLink1URL: http://sg.renesas.com/fmwk.jsp?cnt=hd74hc_root.jsp&fp=/products/standard_ic/general_purpose_logic/5v_standard_logic/hd74hc/; ComponentLink2Description: Datasheet; ComponentLink2URL: http://documentation.renesas.com/eng/products/logic/rej03d0539_hd74hc11ds.pdf; ComponentLink3Description: Packaging Specification; ComponentLink3URL: http://sg.renesas.com/media/products/common_info/package/pdf/ic/code/prdp0014ab_b.pdf
footprint PRDP0014AB-B (DIP, 14-Leads, Row Spacing 7.62mm, Pitch 2.54mm, Body 19.2x6.3mm)
pins on every part: 7 GND (power) hidden, 14 VCC (power) hidden
part A pins: 1 1A (in), 2 1B (in), 12 1Y (out), 13 1C (in)
part B pins: 3 2A (in), 4 2B (in), 5 2C (in), 6 2Y (out)
part C pins: 8 3Y (out), 9 3A (in), 10 3B (in), 11 3C (in)

## HD74HC11RP
designator U?
Triple 3-Input AND Gates; Published: 10-Feb-2010; DatasheetVersion: Rev.2.00, Oct-2005; PackageVersion: Sep-2005; PackageReference: PRSP0014DE-A; Publisher: Altium Limited; PackageDescription: 14-Pin Plastic Small Outline Integrated Circuit 8.65 x 3.95 mm Body, 1.27 mm Pitch; Code_JEITA: P-SOP14-3.95x8.65-1.27; ComponentLink1Description: Manufacturer Link; ComponentLink1URL: http://sg.renesas.com/fmwk.jsp?cnt=hd74hc_root.jsp&fp=/products/standard_ic/general_purpose_logic/5v_standard_logic/hd74hc/; ComponentLink2Description: Datasheet; ComponentLink2URL: http://documentation.renesas.com/eng/products/logic/rej03d0539_hd74hc11ds.pdf; ComponentLink3Description: Packaging Specification; ComponentLink3URL: http://sg.renesas.com/media/products/common_info/package/pdf/ic/code/prsp0014de_a.pdf
footprint PRSP0014DE-A_N (SOIC, 14-Leads, Body 8.65x3.95mm, Pitch 1.27mm, IPC Medium Density)
footprint PRSP0014DE-A_L (SOIC, 14-Leads, Body 8.65x3.95mm, Pitch 1.27mm, IPC High Density)
footprint PRSP0014DE-A_M (SOIC, 14-Leads, Body 8.65x3.95mm, Pitch 1.27mm, IPC Low Density)
pins on every part: 7 GND (power) hidden, 14 VCC (power) hidden
part A pins: 1 1A (in), 2 1B (in), 12 1Y (out), 13 1C (in)
part B pins: 3 2A (in), 4 2B (in), 5 2C (in), 6 2Y (out)
part C pins: 8 3Y (out), 9 3A (in), 10 3B (in), 11 3C (in)

## HD74HC14FP
designator U?
Hex Inverters; Published: 10-Feb-2010; DatasheetVersion: Rev.2.00, Oct-2005; PackageVersion: Sep-2005; PackageReference: PRSP0014DF-B; Publisher: Altium Limited; PackageDescription: 14-Pin Plastic Small Outline Package, 10.06 x 5.5 mm Body, 1.27 mm Pitch; Code_JEITA: P-SOP14-5.5x10.06-1.27; ComponentLink1Description: Manufacturer Link; ComponentLink1URL: http://sg.renesas.com/fmwk.jsp?cnt=hd74hc_root.jsp&fp=/products/standard_ic/general_purpose_logic/5v_standard_logic/hd74hc/; ComponentLink2Description: Datasheet; ComponentLink2URL: http://documentation.renesas.com/eng/products/logic/rej03d0540_hd74hc14ds.pdf; ComponentLink3Description: Packaging Specification; ComponentLink3URL: http://sg.renesas.com/media/products/common_info/package/pdf/ic/code/prsp0014df_b.pdf
footprint PRSP0014DF-B_N (SOP, 14-Leads, Body 10.06x5.5mm, Pitch 1.27mm, IPC Medium Density)
footprint PRSP0014DF-B_L (SOP, 14-Leads, Body 10.06x5.5mm, Pitch 1.27mm, IPC High Density)
footprint PRSP0014DF-B_M (SOP, 14-Leads, Body 10.06x5.5mm, Pitch 1.27mm, IPC Low Density)
pins on every part: 7 GND (power) hidden, 14 VCC (power) hidden
part A pins: 1 1A (in), 2 1~{Y} (out)
part B pins: 3 2A (in), 4 2~{Y} (out)
part C pins: 5 3A (in), 6 3~{Y} (out)
part D pins: 8 4~{Y} (out), 9 4A (in)
part E pins: 10 5~{Y} (out), 11 5A (in)
part F pins: 12 6~{Y} (out), 13 6A (in)

## HD74HC14P
designator U?
Hex Inverters; Published: 10-Feb-2010; DatasheetVersion: Rev.2.00, Oct-2005; PackageVersion: Sep-2005; PackageReference: PRDP0014AB-B; Publisher: Altium Limited; PackageDescription: 14-Pin Plastic DIP, 19.2 x 6.3 mm Body, 7.62 mm Row Spacing, Pitch 2.54 mm; Code_JEITA: P-DIP14-6.3x19.2-2.54; ComponentLink1Description: Manufacturer Link; ComponentLink1URL: http://sg.renesas.com/fmwk.jsp?cnt=hd74hc_root.jsp&fp=/products/standard_ic/general_purpose_logic/5v_standard_logic/hd74hc/; ComponentLink2Description: Datasheet; ComponentLink2URL: http://documentation.renesas.com/eng/products/logic/rej03d0540_hd74hc14ds.pdf; ComponentLink3Description: Packaging Specification; ComponentLink3URL: http://sg.renesas.com/media/products/common_info/package/pdf/ic/code/prdp0014ab_b.pdf
footprint PRDP0014AB-B (DIP, 14-Leads, Row Spacing 7.62mm, Pitch 2.54mm, Body 19.2x6.3mm)
pins on every part: 7 GND (power) hidden, 14 VCC (power) hidden
part A pins: 1 1A (in), 2 1~{Y} (out)
part B pins: 3 2A (in), 4 2~{Y} (out)
part C pins: 5 3A (in), 6 3~{Y} (out)
part D pins: 8 4~{Y} (out), 9 4A (in)
part E pins: 10 5~{Y} (out), 11 5A (in)
part F pins: 12 6~{Y} (out), 13 6A (in)

## HD74HC14RP
designator U?
Hex Inverters; Published: 10-Feb-2010; DatasheetVersion: Rev.2.00, Oct-2005; PackageVersion: Sep-2005; PackageReference: PRSP0014DE-A; Publisher: Altium Limited; PackageDescription: 14-Pin Plastic Small Outline Integrated Circuit 8.65 x 3.95 mm Body, 1.27 mm Pitch; Code_JEITA: P-SOP14-3.95x8.65-1.27; ComponentLink1Description: Manufacturer Link; ComponentLink1URL: http://sg.renesas.com/fmwk.jsp?cnt=hd74hc_root.jsp&fp=/products/standard_ic/general_purpose_logic/5v_standard_logic/hd74hc/; ComponentLink2Description: Datasheet; ComponentLink2URL: http://documentation.renesas.com/eng/products/logic/rej03d0540_hd74hc14ds.pdf; ComponentLink3Description: Packaging Specification; ComponentLink3URL: http://sg.renesas.com/media/products/common_info/package/pdf/ic/code/prsp0014de_a.pdf
footprint PRSP0014DE-A_N (SOIC, 14-Leads, Body 8.65x3.95mm, Pitch 1.27mm, IPC Medium Density)
footprint PRSP0014DE-A_L (SOIC, 14-Leads, Body 8.65x3.95mm, Pitch 1.27mm, IPC High Density)
footprint PRSP0014DE-A_M (SOIC, 14-Leads, Body 8.65x3.95mm, Pitch 1.27mm, IPC Low Density)
pins on every part: 7 GND (power) hidden, 14 VCC (power) hidden
part A pins: 1 1A (in), 2 1~{Y} (out)
part B pins: 3 2A (in), 4 2~{Y} (out)
part C pins: 5 3A (in), 6 3~{Y} (out)
part D pins: 8 4~{Y} (out), 9 4A (in)
part E pins: 10 5~{Y} (out), 11 5A (in)
part F pins: 12 6~{Y} (out), 13 6A (in)

## HD74HC14T
designator U?
Hex Inverters; Published: 10-Feb-2010; DatasheetVersion: Rev.2.00, Oct-2005; PackageVersion: Sep-2005; PackageReference: PTSP0014JA-B; Publisher: Altium Limited; PackageDescription: 14-Pin Plastic Thin Small Outline Package 0.65 mm Pitch; Code_JEITA: P-TSSOP14-4.4x5-0.65; ComponentLink1Description: Manufacturer Link; ComponentLink1URL: http://sg.renesas.com/fmwk.jsp?cnt=hd74hc_root.jsp&fp=/products/standard_ic/general_purpose_logic/5v_standard_logic/hd74hc/; ComponentLink2Description: Datasheet; ComponentLink2URL: http://documentation.renesas.com/eng/products/logic/rej03d0540_hd74hc14ds.pdf; ComponentLink3Description: Packaging Specification; ComponentLink3URL: http://sg.renesas.com/media/products/common_info/package/pdf/ic/code/ptsp0014ja_b.pdf
footprint PTSP0014JA-B_N (TSOP, 14-Leads, Body 5x4.4mm, Pitch 0.65mm, IPC Medium Density)
footprint PTSP0014JA-B_L (TSOP, 14-Leads, Body 5x4.4mm, Pitch 0.65mm, IPC High Density)
footprint PTSP0014JA-B_M (TSOP, 14-Leads, Body 5x4.4mm, Pitch 0.65mm, IPC Low Density)
pins on every part: 7 GND (power) hidden, 14 VCC (power) hidden
part A pins: 1 1A (in), 2 1~{Y} (out)
part B pins: 3 2A (in), 4 2~{Y} (out)
part C pins: 5 3A (in), 6 3~{Y} (out)
part D pins: 8 4~{Y} (out), 9 4A (in)
part E pins: 10 5~{Y} (out), 11 5A (in)
part F pins: 12 6~{Y} (out), 13 6A (in)

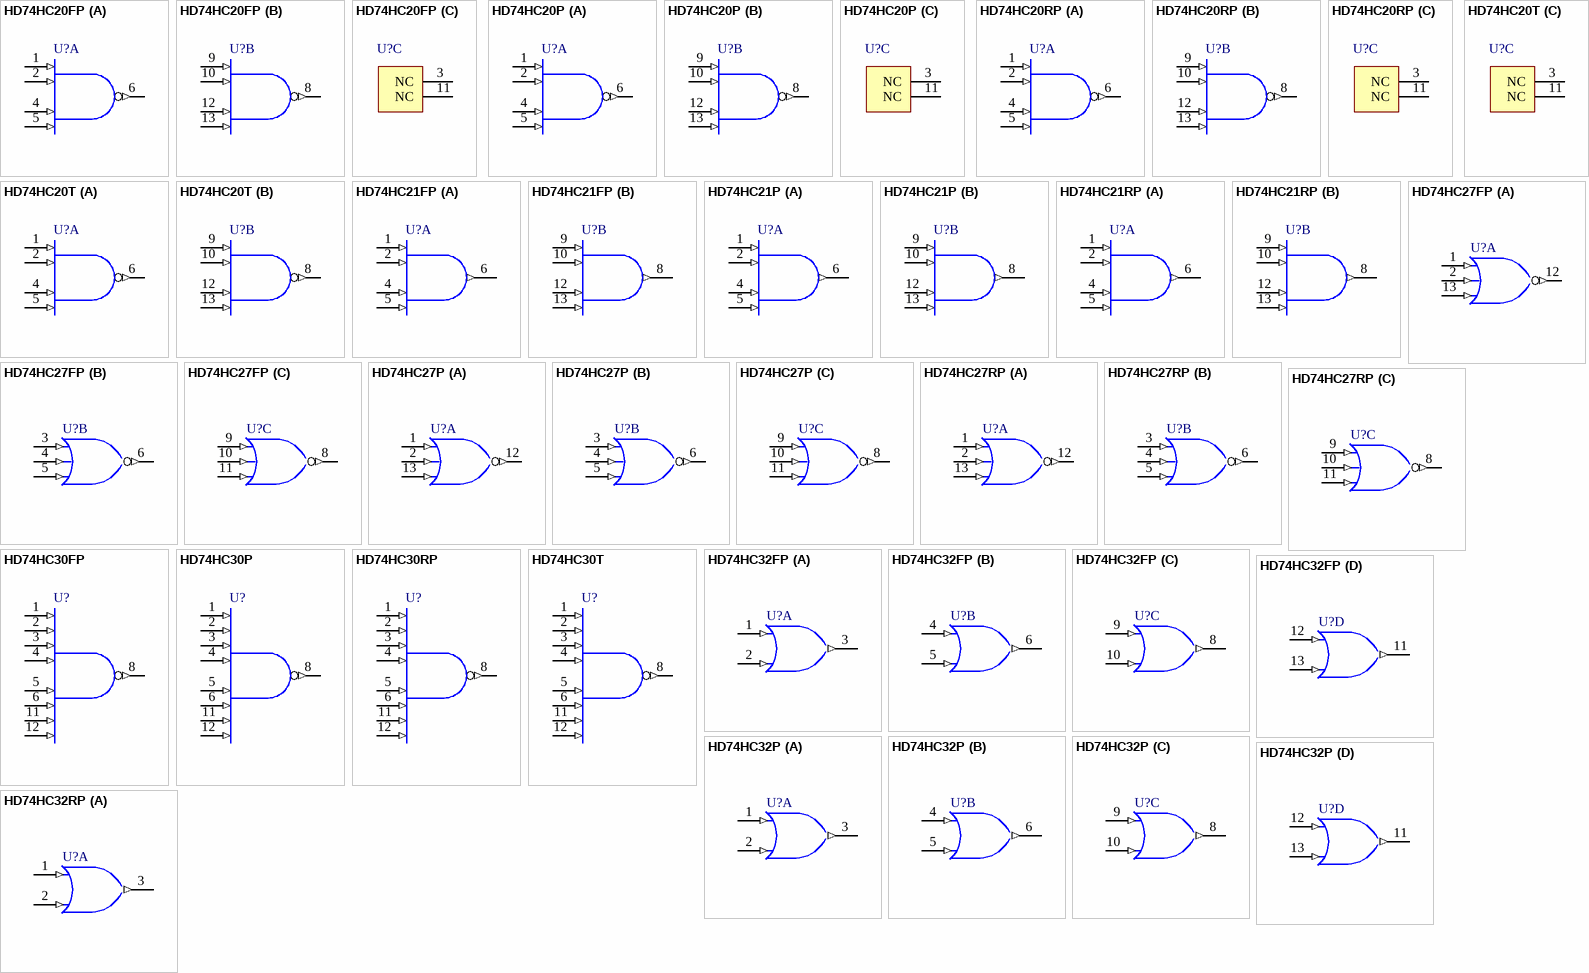
[diagram p12: symbols HD74HC20FP to HD74HC32RP]

## HD74HC20FP
designator U?
Dual 4-Input NAND Gates; Published: 10-Feb-2010; DatasheetVersion: Rev.2.00, Oct-2005; PackageVersion: Sep-2005; PackageReference: PRSP0014DF-B; Publisher: Altium Limited; PackageDescription: 14-Pin Plastic Small Outline Package, 10.06 x 5.5 mm Body, 1.27 mm Pitch; Code_JEITA: P-SOP14-5.5x10.06-1.27; ComponentLink1Description: Manufacturer Link; ComponentLink1URL: http://sg.renesas.com/fmwk.jsp?cnt=hd74hc_root.jsp&fp=/products/standard_ic/general_purpose_logic/5v_standard_logic/hd74hc/; ComponentLink2Description: Datasheet; ComponentLink2URL: http://documentation.renesas.com/eng/products/logic/rej03d0541_hd74hc20ds.pdf; ComponentLink3Description: Packaging Specification; ComponentLink3URL: http://sg.renesas.com/media/products/common_info/package/pdf/ic/code/prsp0014df_b.pdf
footprint PRSP0014DF-B_N (SOP, 14-Leads, Body 10.06x5.5mm, Pitch 1.27mm, IPC Medium Density)
footprint PRSP0014DF-B_L (SOP, 14-Leads, Body 10.06x5.5mm, Pitch 1.27mm, IPC High Density)
footprint PRSP0014DF-B_M (SOP, 14-Leads, Body 10.06x5.5mm, Pitch 1.27mm, IPC Low Density)
pins on every part: 7 GND (power) hidden, 14 VCC (power) hidden
part A pins: 1 1A (in), 2 1B (in), 4 1C (in), 5 1D (in), 6 1Y (out)
part B pins: 8 2Y (out), 9 2A (in), 10 2B (in), 12 2C (in), 13 2D (in)
part C pins: 3 NC, 11 NC

## HD74HC20P
designator U?
Dual 4-Input NAND Gates; Published: 10-Feb-2010; DatasheetVersion: Rev.2.00, Oct-2005; PackageVersion: Sep-2005; PackageReference: PRDP0014AB-B; Publisher: Altium Limited; PackageDescription: 14-Pin Plastic DIP, 19.2 x 6.3 mm Body, 7.62 mm Row Spacing, Pitch 2.54 mm; Code_JEITA: P-DIP14-6.3x19.2-2.54; ComponentLink1Description: Manufacturer Link; ComponentLink1URL: http://sg.renesas.com/fmwk.jsp?cnt=hd74hc_root.jsp&fp=/products/standard_ic/general_purpose_logic/5v_standard_logic/hd74hc/; ComponentLink2Description: Datasheet; ComponentLink2URL: http://documentation.renesas.com/eng/products/logic/rej03d0541_hd74hc20ds.pdf; ComponentLink3Description: Packaging Specification; ComponentLink3URL: http://sg.renesas.com/media/products/common_info/package/pdf/ic/code/prdp0014ab_b.pdf
footprint PRDP0014AB-B (DIP, 14-Leads, Row Spacing 7.62mm, Pitch 2.54mm, Body 19.2x6.3mm)
pins on every part: 7 GND (power) hidden, 14 VCC (power) hidden
part A pins: 1 1A (in), 2 1B (in), 4 1C (in), 5 1D (in), 6 1Y (out)
part B pins: 8 2Y (out), 9 2A (in), 10 2B (in), 12 2C (in), 13 2D (in)
part C pins: 3 NC, 11 NC

## HD74HC20RP
designator U?
Dual 4-Input NAND Gates; Published: 10-Feb-2010; DatasheetVersion: Rev.2.00, Oct-2005; PackageVersion: Sep-2005; PackageReference: PRSP0014DE-A; Publisher: Altium Limited; PackageDescription: 14-Pin Plastic Small Outline Integrated Circuit 8.65 x 3.95 mm Body, 1.27 mm Pitch; Code_JEITA: P-SOP14-3.95x8.65-1.27; ComponentLink1Description: Manufacturer Link; ComponentLink1URL: http://sg.renesas.com/fmwk.jsp?cnt=hd74hc_root.jsp&fp=/products/standard_ic/general_purpose_logic/5v_standard_logic/hd74hc/; ComponentLink2Description: Datasheet; ComponentLink2URL: http://documentation.renesas.com/eng/products/logic/rej03d0541_hd74hc20ds.pdf; ComponentLink3Description: Packaging Specification; ComponentLink3URL: http://sg.renesas.com/media/products/common_info/package/pdf/ic/code/prsp0014de_a.pdf
footprint PRSP0014DE-A_N (SOIC, 14-Leads, Body 8.65x3.95mm, Pitch 1.27mm, IPC Medium Density)
footprint PRSP0014DE-A_L (SOIC, 14-Leads, Body 8.65x3.95mm, Pitch 1.27mm, IPC High Density)
footprint PRSP0014DE-A_M (SOIC, 14-Leads, Body 8.65x3.95mm, Pitch 1.27mm, IPC Low Density)
pins on every part: 7 GND (power) hidden, 14 VCC (power) hidden
part A pins: 1 1A (in), 2 1B (in), 4 1C (in), 5 1D (in), 6 1Y (out)
part B pins: 8 2Y (out), 9 2A (in), 10 2B (in), 12 2C (in), 13 2D (in)
part C pins: 3 NC, 11 NC

## HD74HC20T
designator U?
Dual 4-Input NAND Gates; Published: 10-Feb-2010; DatasheetVersion: Rev.2.00, Oct-2005; PackageVersion: Sep-2005; PackageReference: PTSP0014JA-B; Publisher: Altium Limited; PackageDescription: 14-Pin Plastic Thin Small Outline Package 0.65 mm Pitch; Code_JEITA: P-TSSOP14-4.4x5-0.65; ComponentLink1Description: Manufacturer Link; ComponentLink1URL: http://sg.renesas.com/fmwk.jsp?cnt=hd74hc_root.jsp&fp=/products/standard_ic/general_purpose_logic/5v_standard_logic/hd74hc/; ComponentLink2Description: Datasheet; ComponentLink2URL: http://documentation.renesas.com/eng/products/logic/rej03d0541_hd74hc20ds.pdf; ComponentLink3Description: Packaging Specification; ComponentLink3URL: http://sg.renesas.com/media/products/common_info/package/pdf/ic/code/ptsp0014ja_b.pdf
footprint PTSP0014JA-B_N (TSOP, 14-Leads, Body 5x4.4mm, Pitch 0.65mm, IPC Medium Density)
footprint PTSP0014JA-B_L (TSOP, 14-Leads, Body 5x4.4mm, Pitch 0.65mm, IPC High Density)
footprint PTSP0014JA-B_M (TSOP, 14-Leads, Body 5x4.4mm, Pitch 0.65mm, IPC Low Density)
pins on every part: 7 GND (power) hidden, 14 VCC (power) hidden
part A pins: 1 1A (in), 2 1B (in), 4 1C (in), 5 1D (in), 6 1Y (out)
part B pins: 8 2Y (out), 9 2A (in), 10 2B (in), 12 2C (in), 13 2D (in)
part C pins: 3 NC, 11 NC

## HD74HC21FP
designator U?
Dual 4-Input AND Gates; Published: 10-Feb-2010; DatasheetVersion: Rev.2.00, Oct-2005; PackageVersion: Sep-2005; PackageReference: PRSP0014DF-B; Publisher: Altium Limited; PackageDescription: 14-Pin Plastic Small Outline Package, 10.06 x 5.5 mm Body, 1.27 mm Pitch; Code_JEITA: P-SOP14-5.5x10.06-1.27; ComponentLink1Description: Manufacturer Link; ComponentLink1URL: http://sg.renesas.com/fmwk.jsp?cnt=hd74hc_root.jsp&fp=/products/standard_ic/general_purpose_logic/5v_standard_logic/hd74hc/; ComponentLink2Description: Datasheet; ComponentLink2URL: http://documentation.renesas.com/eng/products/logic/rej03d0542_hd74hc21ds.pdf; ComponentLink3Description: Packaging Specification; ComponentLink3URL: http://sg.renesas.com/media/products/common_info/package/pdf/ic/code/prsp0014df_b.pdf
footprint PRSP0014DF-B_N (SOP, 14-Leads, Body 10.06x5.5mm, Pitch 1.27mm, IPC Medium Density)
footprint PRSP0014DF-B_L (SOP, 14-Leads, Body 10.06x5.5mm, Pitch 1.27mm, IPC High Density)
footprint PRSP0014DF-B_M (SOP, 14-Leads, Body 10.06x5.5mm, Pitch 1.27mm, IPC Low Density)
pins on every part: 3 NC hidden, 7 GND (power) hidden, 11 NC hidden, 14 VCC (power) hidden
part A pins: 1 1A (in), 2 1B (in), 4 1C (in), 5 1D (in), 6 1Y (out)
part B pins: 8 2Y (out), 9 2A (in), 10 2B (in), 12 2C (in), 13 2D (in)